# EAGLE library part TLE2426ID (library tle2426id)
PRECISION VIRTUAL GROUND
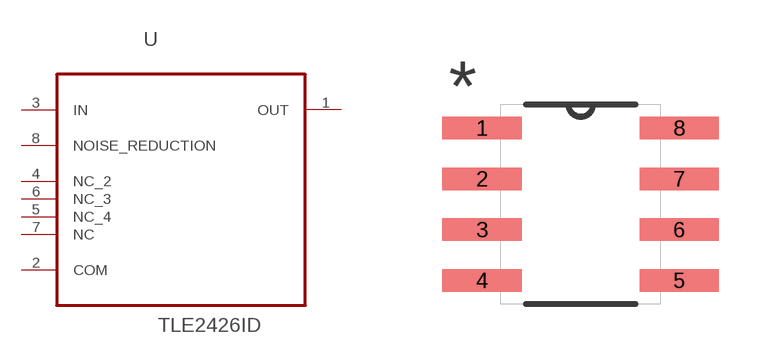
[diagram p0: symbol with the pads of SOIC127P600X175-8N; footprint SOIC127P600X175-8N]

Designator prefix U

## TLE2426ID (MPN: TLE2426ID; OC_FARNELL: 8454833; OC_NEWARK: 35K1234; PACKAGE: SOIC-8; SUPPLIER: Texas Instruments)  [SOIC127P600X175-8N]
1  OUT  out
2  COM  pas
3  IN  in
4  NC_2  nc
5  NC_4  nc
6  NC_3  nc
7  NC  nc
8  NOISE_REDUCTION  pas

## Footprint SOIC127P600X175-8N (pad centres in mm)
smd 1.981 x 0.559: 1 -2.464,1.905; 2 -2.464,0.635; 3 -2.464,-0.635; 4 -2.464,-1.905; 5 2.464,-1.905; 6 2.464,-0.635; 7 2.464,0.635; 8 2.464,1.905